# Altium integrated library ST Peripheral Real Time Clock.IntLib: 2 symbols
Pins are listed as number, name and electrical type; pins without a type are passive.

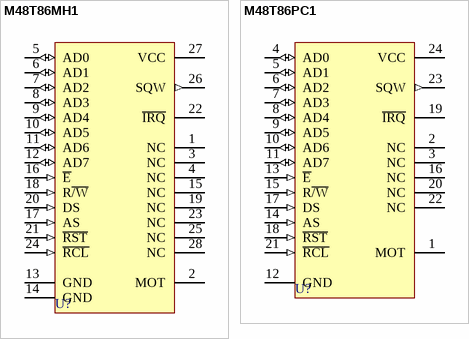
[diagram p0: symbols M48T86MH1 to M48T86PC1]

## M48T86MH1
designator U?
5 Volt PC Real Time Clock; Published: 24-Aug-2001; LatestRevisionDate: 6-Jun-2005; LatestRevisionNote: Stylized 3D Model Added.; DatasheetDocument: Dec-1998; PackageReference: SOH28; Publisher: Altium Limited; ComponentLink1Description: Manufacturer Link; ComponentLink1URL: http://www.st.com/; ComponentLink2Description: Datasheet; ComponentLink2URL: http://www.st.com/stonline/products/literature/ds/4557/m48t86.pdf
footprint SOH28 (Small Outline, Plastic, Battery Snaphat; 28 Leads; Body Width 8.6 mm; Pitch 1.27 mm)
3D model SOH28 (Small Outline, Plastic, Battery Snaphat; 28 Leads; Body Width 8.6 mm; Pitch 1.27 mm)
pins: 1 NC, 2 MOT, 3 NC, 4 NC, 5 AD0 (io), 6 AD1 (io), 7 AD2 (io), 8 AD3 (io), 9 AD4 (io), 10 AD5 (io), 11 AD6 (io), 12 AD7 (io), 13 GND (power), 14 GND (power), 15 NC, 16 ~{E} (in), 17 AS (in), 18 R~{/W} (in), 19 NC, 20 DS (in), 21 ~{RST} (in), 22 ~{IRQ} (oc), 23 NC, 24 ~{RCL} (in), 25 NC, 26 SQW (out), 27 VCC (power), 28 NC

## M48T86PC1
designator U?
5 Volt PC Real Time Clock; Published: 24-Aug-2001; LatestRevisionDate: 17-Jul-2002; LatestRevisionNote: Re-released for DXP Platform.; DatasheetDocument: Dec-1998; PackageReference: PCDIP24; Publisher: Altium Limited; ComponentLink1Description: Manufacturer Link; ComponentLink1URL: http://www.st.com/; ComponentLink2Description: Datasheet; ComponentLink2URL: http://www.st.com/stonline/products/literature/ds/4557/m48t86.pdf
footprint PCDIP24 (DIP; 24 Rectangular Pins; Row Space 15.24 mm; Pitch 2.54 mm)
pins: 1 MOT, 2 NC, 3 NC, 4 AD0 (io), 5 AD1 (io), 6 AD2 (io), 7 AD3 (io), 8 AD4 (io), 9 AD5 (io), 10 AD6 (io), 11 AD7 (io), 12 GND (power), 13 ~{E} (in), 14 AS (in), 15 R~{/W} (in), 16 NC, 17 DS (in), 18 ~{RST} (in), 19 ~{IRQ} (oc), 20 NC, 21 ~{RCL} (in), 22 NC, 23 SQW (out), 24 VCC (power)